# EAGLE library part VNH2SP30_MOTOR_CONTROLLER (library pie)
VNH2SP30 MOTOR CONTROLLER
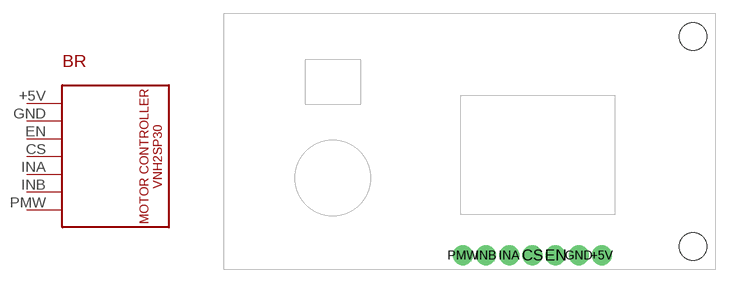
[diagram p40: symbol with the pads of VNH2SP30_MOTOR_CONTROLLER; footprint VNH2SP30_MOTOR_CONTROLLER]

Designator prefix BR

## VNH2SP30_MOTOR_CONTROLLER  [VNH2SP30_MOTOR_CONTROLLER]
+5V  +5V
CS  CS
EN  EN
GND  GND
INA  INA
INB  INB
PMW  PMW

## Footprint VNH2SP30_MOTOR_CONTROLLER (pad centres in mm)
VNH2SP30 MOTOR CONTROLLER
drill 1 pad 2.184: +5V 41.5,1.5; CS 33.88,1.5; EN 36.42,1.5; GND 38.96,1.5; INA 31.34,1.5; INB 28.8,1.5; PMW 26.26,1.5
hole 3 at 51.5,2.5
hole 3 at 51.5,25.5